# Altium schematic symbol library CON_USB4-2GND.SCHLIB: 1 symbol
Pins are listed as number, name and electrical type; pins without a type are passive.

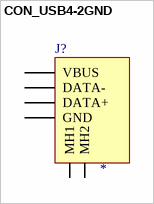
[diagram p0: symbol CON_USB4-2GND]

## CON_USB4-2GND
designator J?
pins: 1 VBUS, 2 DATA-, 3 DATA+, 4 GND, 5 MH1, 6 MH2